# Altium schematic symbol library Schlib1.SchLib: 4 symbols
Pins are listed as number, name and electrical type; pins without a type are passive.

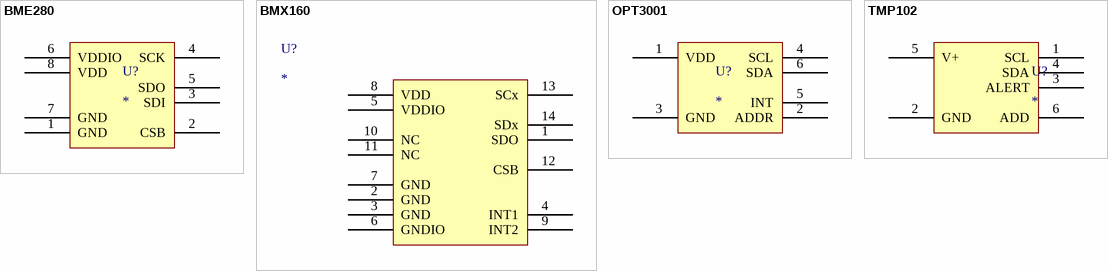
[diagram p0: symbols BME280 to TMP102]

## BME280
designator U?
pins: 1 GND, 2 CSB, 3 SDI, 4 SCK, 5 SDO, 6 VDDIO, 7 GND, 8 VDD

## BMX160
designator U?
pins: 1 SDO, 2 GND, 3 GND, 4 INT1, 5 VDDIO, 6 GNDIO, 7 GND, 8 VDD, 9 INT2, 10 NC, 11 NC, 12 CSB, 13 SCx, 14 SDx

## OPT3001
designator U?
pins: 1 VDD, 2 ADDR, 3 GND, 4 SCL, 5 INT, 6 SDA

## TMP102
designator U?
pins: 1 SCL, 2 GND, 3 ALERT, 4 SDA, 5 V+, 6 ADD